# Altium footprint library ESP_C6_Mini.PcbLib: 1 footprints
Each footprint in its own frame and in the unit in brackets; x right, y up, seen from the top. Pads: shape width x height; smd on the part's side, far side on the other; paste and mask are expansions set on the pad; w line width, h text height; cw(c..) or ccw(c..) is an arc to the next point about the centre after c.
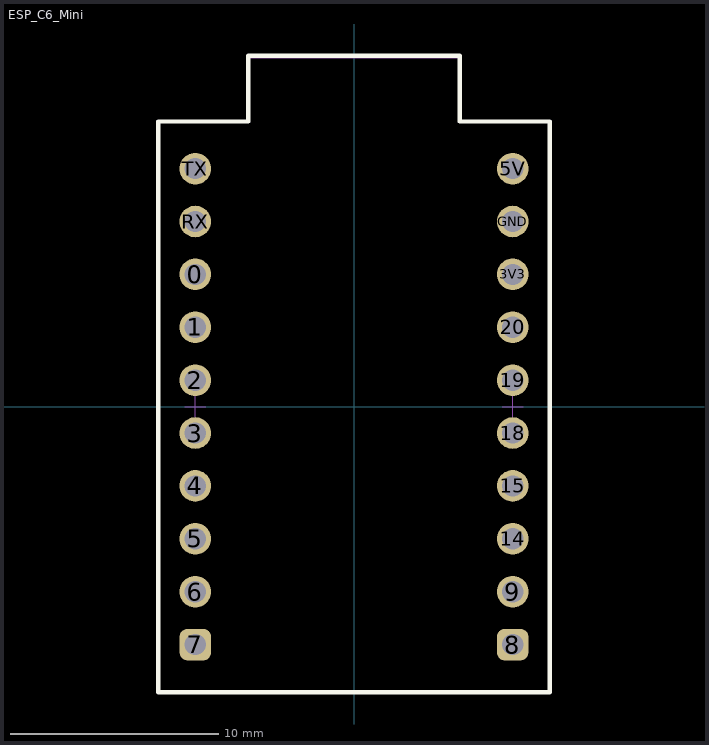
[diagram p0: the footprint, top view; thin cyan lines are the x and y axes]

## ESP_C6_Mini [mm]
pads (20):
  round 1.52 hole 1.02: 0(-7.62,6.35) 1(-7.62,3.81) 2(-7.62,1.27) 3(-7.62,-1.27) 3V3(7.62,6.35) 4(-7.62,-3.81) 5(-7.62,-6.35) 5V(7.62,11.43) 6(-7.62,-8.89) 9(7.62,-8.89) 14(7.62,-6.35) 15(7.62,-3.81) 18(7.62,-1.27) 19(7.62,1.27) 20(7.62,3.81) GND(7.62,8.89) RX(-7.62,8.89) TX(-7.62,11.43)
  rrect50% 1.52x1.52 hole 1.02: 7(-7.62,-11.43) 8(7.62,-11.43)
Top Overlay:
  lines w0.2: -9.398,-13.716 9.398,-13.716 9.398,13.698 6.576,13.698 5.08,13.698 5.08,16.847 -3.152,16.847 -5.08,16.847 -5.08,14.92 -5.08,13.698 -6.302,13.698 -9.398,13.698 -9.398,-13.716
Top Courtyard:
  lines w0.05: -9.398,-13.716 9.398,-13.716 9.398,13.716 5.08,13.716 5.08,16.764 1.651,16.764 -1.651,16.764 -5.08,16.764 -5.08,13.716 -9.398,13.716 -9.398,-13.716
Top Designator:
Top Component Outline:
  lines w0.1: -9.398,-13.716 9.398,-13.716 9.398,13.716 5.08,13.716 5.08,16.764 1.651,16.764 -1.651,16.764 -5.08,16.764 -5.08,13.716 -9.398,13.716 -9.398,-13.716
Top Component Center:
  lines w0.05: -8.12,0 -7.12,0 ; -7.62,-0.5 -7.62,0.5 ; 7.12,0 8.12,0 ; 7.62,-0.5 7.62,0.5
3D body "61301011821.stp": height 8.55, standoff -3.06, extent 6.37,-12.95 8.87,12.95
3D body "61301011821.stp": height 8.55, standoff -3.06, extent -8.87,-12.95 -6.37,12.95